# Altium schematic symbol library L_ANSI.SchLib: 10 symbols
Pins are listed as number, name and electrical type; pins without a type are passive.

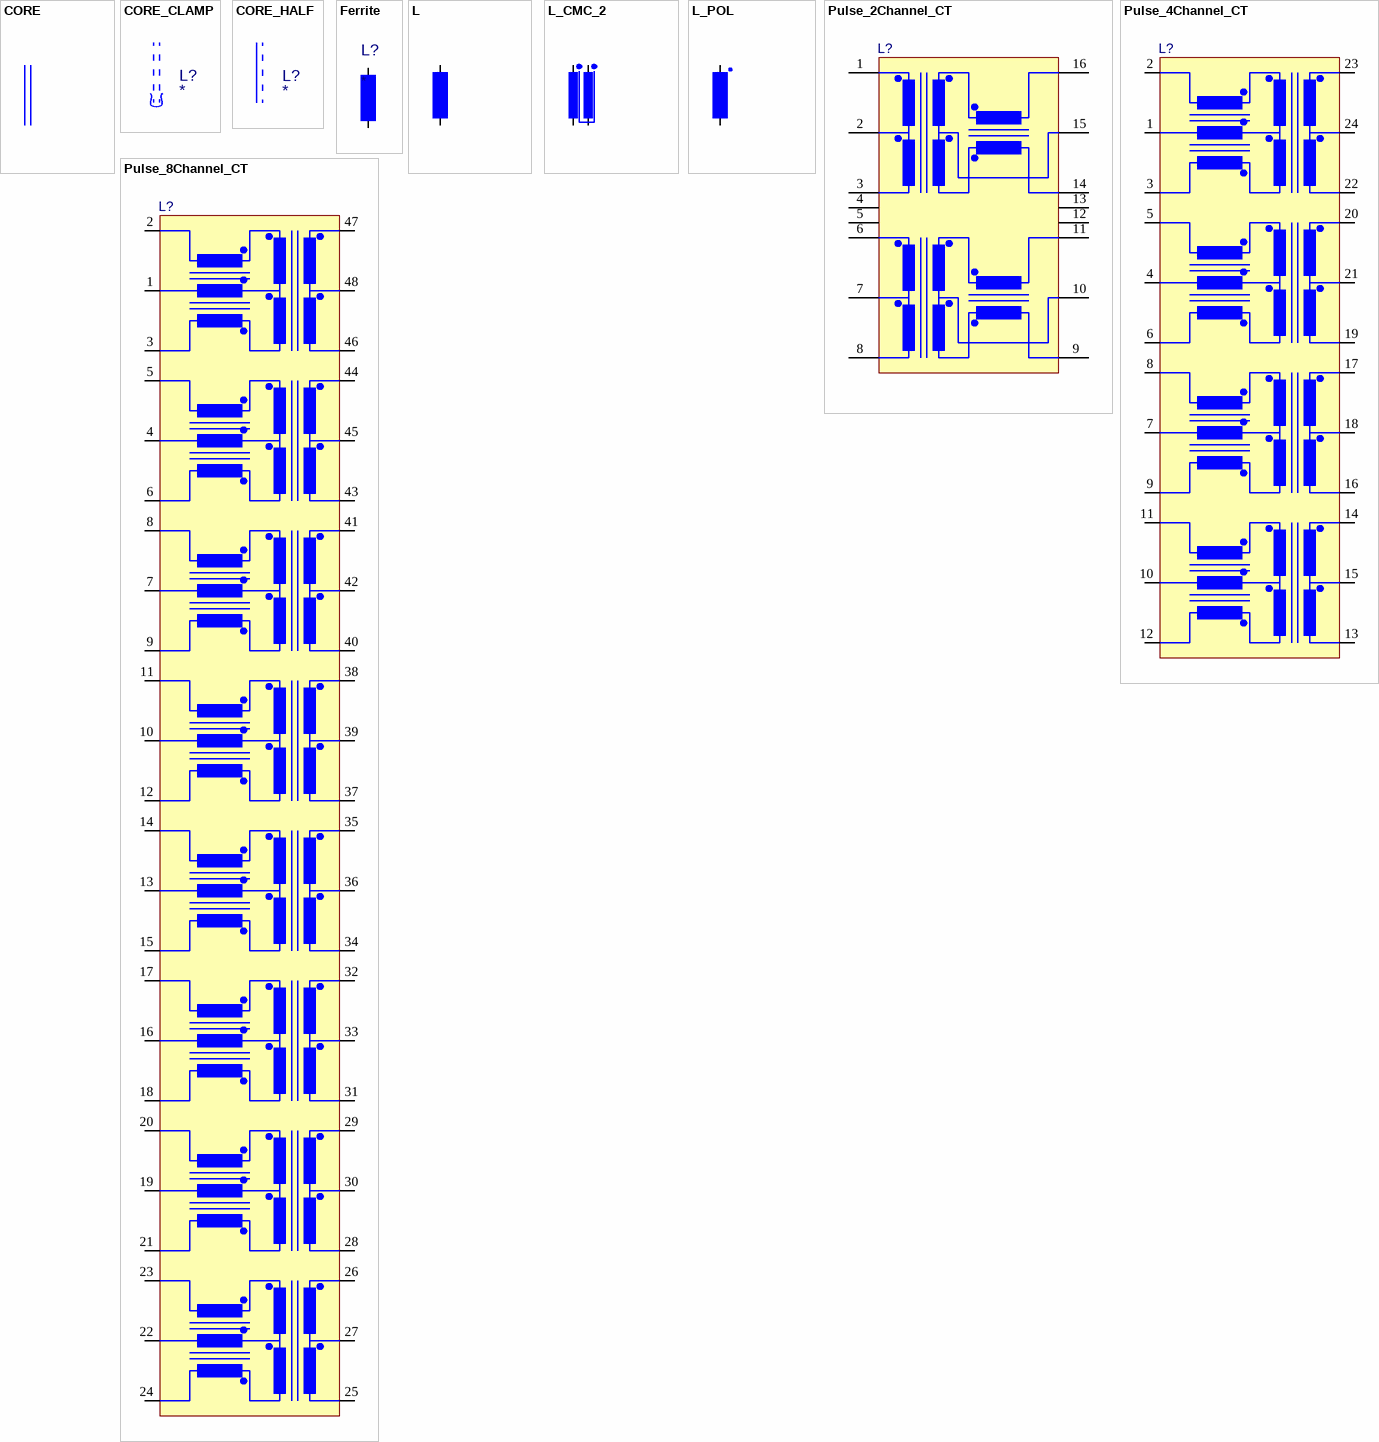
[diagram p0: symbols CORE to Pulse_8Channel_CT]

## CORE
designator L?

## CORE_CLAMP
designator L?

## CORE_HALF
designator L?

## Ferrite
designator L?
Generic Ferrite
pins: 1, 2

## L
designator L?
Generic inductor symbol
pins: 1, 2

## L_CMC_2
designator L?
Common Mode Choke 2 Channels
pins: 1, 2, 3, 4

## L_POL
designator L?
Generic polarized inductor symbol
pins: 1, 2

## Pulse_2Channel_CT
designator L?
10/100 Base T Transformer
pins: 1 TD+, 2 TCT, 3 TD-, 4 NC, 5 NC, 6 RD+, 7 RCT, 8 RD-, 9 RX-, 10 RXCT, 11 RX+, 12 NC, 13 NC, 14 TX-, 15 TXCT, 16 TX+

## Pulse_4Channel_CT
designator L?
1000 Base T Transformer
pins: 1, 2, 3, 4, 5, 6, 7, 8, 9, 10, 11, 12, 13, 14, 15, 16, 17, 18, 19, 20, 21, 22, 23, 24

## Pulse_8Channel_CT
designator L?
Double 1000 Base T Transformer
pins: 1, 2, 3, 4, 5, 6, 7, 8, 9, 10, 11, 12, 13, 14, 15, 16, 17, 18, 19, 20, 21, 22, 23, 24, 25, 26, 27, 28, 29, 30, 31, 32, 33, 34, 35, 36, 37, 38, 39, 40, 41, 42, 43, 44, 45, 46, 47, 48